# Altium schematic symbol library SIT1602BC-11-33S-32.768000G.SchLib: 1 symbol
Pins are listed as number, name and electrical type; pins without a type are passive.

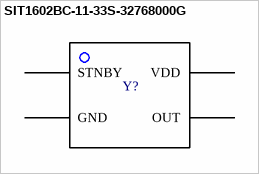
[diagram p0: symbol SIT1602BC-11-33S-32768000G]

## SIT1602BC-11-33S-32768000G
designator Y?  (value not drawn)
PartNumber: SIT1602BC-11-33S-32.768000G; PartDescription: MEMS OSC XO 32.7680MHZ H/LV-CMOS; Manufacturer: SiTIME; Package Type: 4 SMD
footprint SIT1602BC-11-33S-32.768000G (MEMS OSCILLATOR)
pins: 1 STNBY, 2 GND, 3 OUT, 4 VDD